# Altium schematic symbol library XTAL_4PIN.SchLib: 1 symbol
Pins are listed as number, name and electrical type; pins without a type are passive.

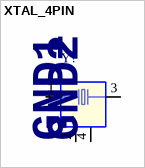
[diagram p0: symbol XTAL_4PIN]

## XTAL_4PIN
designator Y?
XTAL 24MHz 10ppm 8pF SMT
pins: 1, 2 GND1 (power), 3, 4 GND2 (power)